# Altium schematic symbol library TPS63051.SchLib: 1 symbol
Pins are listed as number, name and electrical type; pins without a type are passive.

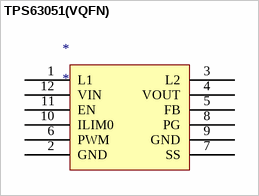
[diagram p0: symbol TPS63051(VQFN)]

## TPS63051(VQFN)
designator *
pins: 1 L1, 2 GND, 3 L2, 4 VOUT, 5 FB, 6 PWM, 7 SS, 8 PG, 9 GND, 10 ILIM0, 11 EN, 12 VIN